# EAGLE library part POLOLU_VNH2SP30-MD01B-X (library _hhn_Pololu)
POLOLU VNH2SP30 MD01B Motor Driver Carrier Board With Current Sense Output DEVICE VERSIONS [none]: plated auxilary OUTA connections -U : non-plated auxilary OUTA connections * -X : no symbol-pins for OUTx, BYPASS, VMOT, GND2 (drawing elements only) SOURCE www.pololu.com/ SPECS Operatingg voltage VMOT 5.5 .. 16 V Logic Voltage VIO 5 V typ. MOSFET on-resistance (per leg): 19 mOhm max. Max PWM frequency 20 kHz Current sense 0.13 V/A Over-voltage shutoff 16 V min. / 19 V typ. Logic input high threshold 3.25 V min. Time to overheat at 20 A 35 s Time to overheat at 15 A 150 s Current for infinite run time 14 A Author: Dipl.-Ing. FH Rainer Bayer
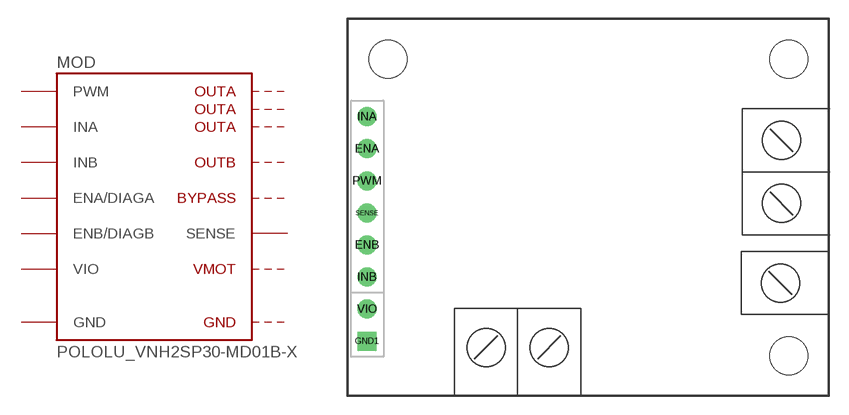
[diagram p4: symbol with the pads of POLOLU_MD01B_X; footprint POLOLU_MD01B_X]

Designator prefix MOD

## POLOLU_VNH2SP30-MD01B-X  [POLOLU_MD01B_X]
ENA  ENA/DIAGA  oc
ENB  ENB/DIAGB  oc
GND1  GND  pwr
INA  INA  in
INB  INB  in
PWM  PWM  in
SENSE  SENSE  pas
VIO  VIO  pwr

## Footprint POLOLU_MD01B_X (pad centres in mm)
POLOLU MD01B no pads for OUTx, BYPASS, VMOT, GND2
drill 1: ENA -17.526,4.636; ENB -17.526,-2.985; INA -17.526,7.176; INB -17.526,-5.524; PWM -17.526,2.095; SENSE -17.526,-0.445; VIO -17.526,-8.065
drill 1 square: GND1 -17.526,-10.604
hole 3 at 15.875,-11.773
hole 3 at -15.875,11.748
hole 3 at 15.875,11.748